# Altium schematic symbol library SCH - ARM CORTEX - STM STM8L151F3Ux.SchLib: 1 symbol
Pins are listed as number, name and electrical type; pins without a type are passive.

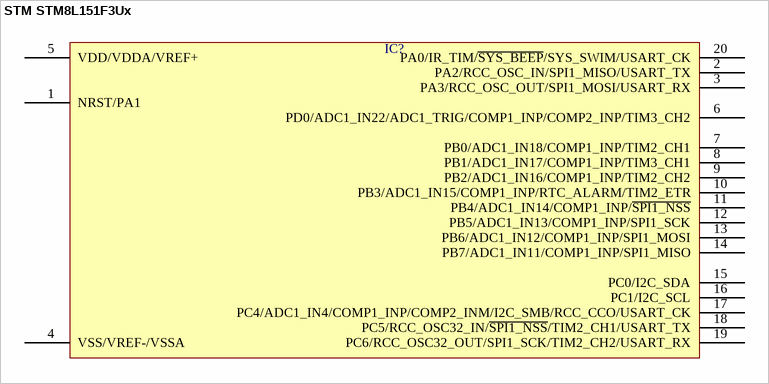
[diagram p0: symbol STM STM8L151F3Ux]

## STM STM8L151F3Ux
designator IC?  (value not drawn)
pins: 1 NRST/PA1, 2 PA2/RCC_OSC_IN/SPI1_MISO/USART_TX, 3 PA3/RCC_OSC_OUT/SPI1_MOSI/USART_RX, 4 VSS/VREF-/VSSA, 5 VDD/VDDA/VREF+, 6 PD0/ADC1_IN22/ADC1_TRIG/COMP1_INP/COMP2_INP/TIM3_CH2, 7 PB0/ADC1_IN18/COMP1_INP/TIM2_CH1, 8 PB1/ADC1_IN17/COMP1_INP/TIM3_CH1, 9 PB2/ADC1_IN16/COMP1_INP/TIM2_CH2, 10 PB3/ADC1_IN15/COMP1_INP/RTC_ALARM/TIM2_ETR, 11 PB4/ADC1_IN14/COMP1_INP/~{SPI1_NSS}, 12 PB5/ADC1_IN13/COMP1_INP/SPI1_SCK, 13 PB6/ADC1_IN12/COMP1_INP/SPI1_MOSI, 14 PB7/ADC1_IN11/COMP1_INP/SPI1_MISO, 15 PC0/I2C_SDA, 16 PC1/I2C_SCL, 17 PC4/ADC1_IN4/COMP1_INP/COMP2_INM/I2C_SMB/RCC_CCO/USART_CK, 18 PC5/RCC_OSC32_IN/~{SPI1_NSS}/TIM2_CH1/USART_TX, 19 PC6/RCC_OSC32_OUT/SPI1_SCK/TIM2_CH2/USART_RX, 20 PA0/IR_TIM/~{SYS_BEEP}/SYS_SWIM/USART_CK